# Altium schematic symbol library ic-rf-pll-vco.SchLib: 2 symbols
Pins are listed as number, name and electrical type; pins without a type are passive.

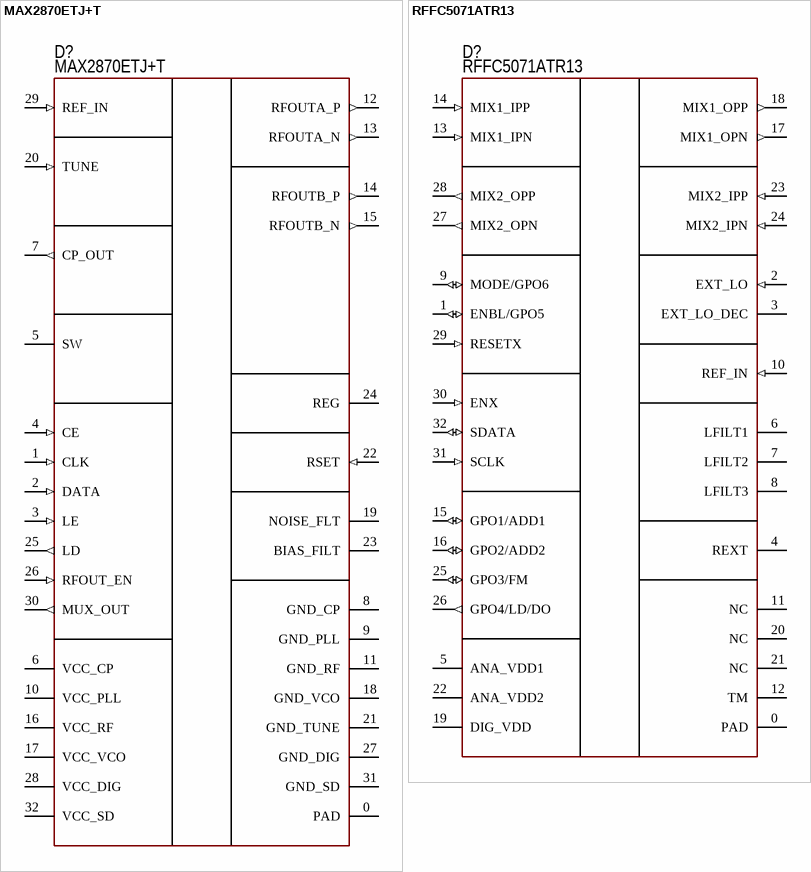
[diagram p0: symbols MAX2870ETJ+T to RFFC5071ATR13]

## MAX2870ETJ+T
designator D?  PartNumber: MAX2870ETJ+T
PLL with integrated VCO; Manufacturer: Analog Devices; Supply: 3...3.6V; FrequencyRange: 23.5...6000MHz; InputFrequency: 10...200MHz; HelpURL: https://www.mouser.ee/datasheet/2/609/MAX2870-3127870.pdf; Package: 32-TQFN; ComponentType: PLL/VCO; ValueManufacturerPartNumber: =ComponentType+', '+PulseResponseTime+', '+FrequencyRange+', '+Supply+', '+Temperature+', '+Package; Temperature: -40...+85°C
footprint 32-QFN (5x5 mm, pitch 0.5 mm, power pad)
pins: 0 PAD (power), 1 CLK (in), 2 DATA (in), 3 LE (in), 4 CE (in), 5 SW, 6 VCC_CP (power), 7 CP_OUT (out), 8 GND_CP (power), 9 GND_PLL (power), 10 VCC_PLL (power), 11 GND_RF (power), 12 RFOUTA_P (out), 13 RFOUTA_N (out), 14 RFOUTB_P (out), 15 RFOUTB_N (out), 16 VCC_RF (power), 17 VCC_VCO (power), 18 GND_VCO (power), 19 NOISE_FLT, 20 TUNE (in), 21 GND_TUNE (power), 22 RSET (in), 23 BIAS_FILT, 24 REG, 25 LD (out), 26 RFOUT_EN (in), 27 GND_DIG (power), 28 VCC_DIG (power), 29 REF_IN (in), 30 MUX_OUT (out), 31 GND_SD (power), 32 VCC_SD (power)

## RFFC5071ATR13
designator D?  PartNumber: RFFC5071ATR13
VCO with integrated 6GHz mixer; Manufacturer: Qorvo; Supply: 2.7...3.3V; FrequencyRange: 85...4200MHz; InputFrequency: 30...6000MHz; HelpURL: https://www.qorvo.com/products/d/da000745; Package: 32-VFQFN; ComponentType: VCO/Mixer; ValueManufacturerPartNumber: =ComponentType+', '+PulseResponseTime+', '+FrequencyRange+', '+Supply+', '+Temperature+', '+Package; Temperature: -40...+85°C
footprint 32-VFQFN (5x5 mm, pitch 0.5 mm, power pad)
pins: 0 PAD, 1 ENBL/GPO5 (io), 2 EXT_LO (in), 3 EXT_LO_DEC, 4 REXT, 5 ANA_VDD1 (power), 6 LFILT1, 7 LFILT2, 8 LFILT3, 9 MODE/GPO6 (io), 10 REF_IN (in), 11 NC, 12 TM, 13 MIX1_IPN (in), 14 MIX1_IPP (in), 15 GPO1/ADD1 (io), 16 GPO2/ADD2 (io), 17 MIX1_OPN (out), 18 MIX1_OPP (out), 19 DIG_VDD (power), 20 NC, 21 NC, 22 ANA_VDD2 (power), 23 MIX2_IPP (in), 24 MIX2_IPN (in), 25 GPO3/FM (io), 26 GPO4/LD/DO (out), 27 MIX2_OPN (out), 28 MIX2_OPP (out), 29 RESETX (in), 30 ENX (in), 31 SCLK (in), 32 SDATA (io)